# EAGLE library part HMC5883L (library HMC5883L)
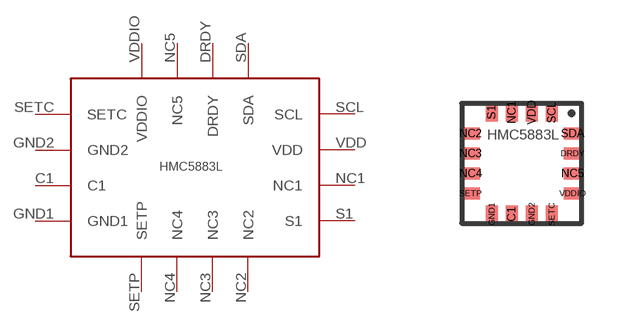
[diagram p0: symbol with the pads of HMC5883L; footprint HMC5883L]

Designator prefix -

## HMC5883L  [HMC5883L]
C1  C1
DRDY  DRDY
GND1  GND1
GND2  GND2
NC1  NC1
NC2  NC2
NC3  NC3
NC4  NC4
NC5  NC5
S1  S1
SCL  SCL
SDA  SDA
SETC  SETC
SETP  SETP
VDD  VDD
VDDIO  VDDIO

## Footprint HMC5883L (pad centres in mm)
smd 0.3 x 0.45: C1 -0.25,-1.275; GND1 -0.75,-1.275; GND2 0.25,-1.275; NC1 -0.25,1.275; S1 -0.75,1.275; SCL 0.75,1.275; SETC 0.75,-1.275; VDD 0.25,1.275
smd 0.45 x 0.3: DRDY 1.275,0.25; NC2 -1.275,0.75; NC3 -1.275,0.25; NC4 -1.275,-0.25; NC5 1.275,-0.25; SDA 1.275,0.75; SETP -1.275,-0.75; VDDIO 1.275,-0.75